# Altium footprint library SnapEDApcb.PcbLib: 3 footprints
Each footprint in its own frame and in the unit in brackets; x right, y up, seen from the top. Pads: shape width x height; smd on the part's side, far side on the other; paste and mask are expansions set on the pad; w line width, h text height; cw(c..) or ccw(c..) is an arc to the next point about the centre after c.
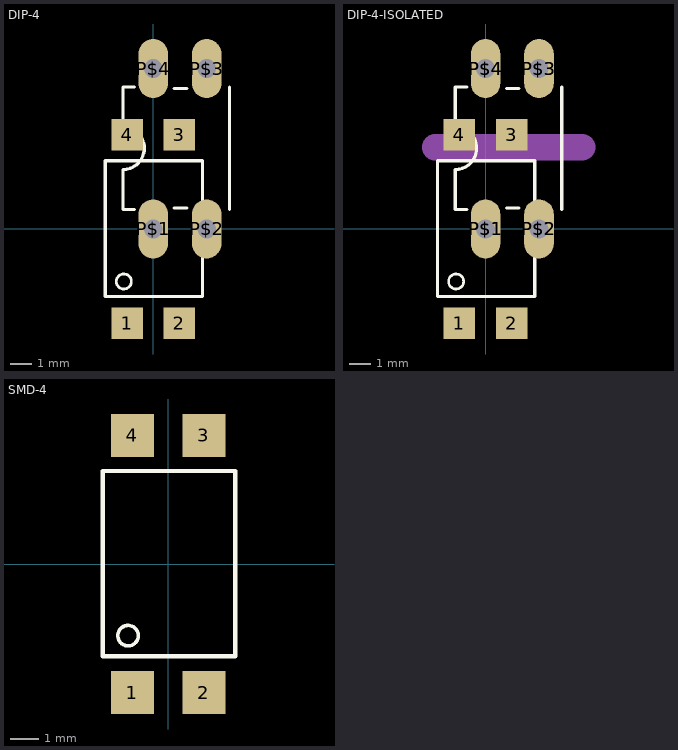
[diagram p0: the footprints below, top view; thin cyan lines are the x and y axes]

## DIP-4 [mm]
pads (8):
  rect 1.5x1.5 smd: 1(-1.25,-4.5) 2(1.25,-4.5) 3(1.25,4.5) 4(-1.25,4.5)
  oval 1.408x2.816 hole 0.9: P$1(0,0) P$2(2.55,0) P$3(2.55,7.65) P$4(0,7.65)
Top Overlay:
  circle w0.127: c-1.402,-2.507 r0.359
  lines w0.152: -0.9,0.929 -1.44,0.929 -1.44,2.834 ccw(c-1.44,3.85) -1.44,4.866 -1.44,6.771 -0.9,6.771 ; 1,1 1.6,1 ; 1,6.7 1.6,6.7 ; 3.64,0.929 3.64,6.771 ; -2.291,-3.225 2.351,-3.225 2.351,3.255 -2.291,3.255 -2.291,-3.225
3D body "LTV-817--3DModel-STEP-56544.STEP": height 5, standoff -3.3, extent -0.905,0 3.695,9.059

## DIP-4-ISOLATED [mm]
pads (12):
  rect 1.5x1.5 smd: 1(-1.25,-4.5) 2(1.25,-4.5) 3(1.25,4.5) 4(-1.25,4.5)
  oval 1.408x2.816 hole 0.9: P$1(0,0) P$1(0,0) P$2(2.55,0) P$2(2.55,0) P$3(2.55,7.65) P$3(2.55,7.65) P$4(0,7.65) P$4(0,7.65)
Top Overlay:
  circle w0.127: c-1.402,-2.507 r0.359
  lines w0.152: -1.44,0.929 -0.9,0.929 -1.44,0.929 ; -1.44,0.929 -1.44,2.834 ; -1.44,0.929 -1.44,2.834 ; -1.44,2.834 ccw(c-1.44,3.85) -1.44,4.866 ; -1.44,2.834 ccw(c-1.44,3.85) -1.44,4.866 ; -1.44,4.866 -1.44,6.771 ; -1.44,4.866 -1.44,6.771 ; -1.44,6.771 -0.9,6.771 -1.44,6.771 ; -2.291,-3.225 2.351,-3.225 2.351,3.255 -2.291,3.255 -2.291,-3.225 ; 1,1 1.6,1 1,1 ; 1,6.7 1.6,6.7 1,6.7 ; 3.64,0.929 3.64,6.771 3.64,0.929
Mechanical 13:
  lines w1.27: -2.4,3.9 4.6,3.9

## SMD-4 [mm]
pads (4):
  rect 1.5x1.5 smd: 1(-1.25,-4.5) 2(1.25,-4.5) 3(1.25,4.5) 4(-1.25,4.5)
Top Overlay:
  circle w0.127: c-1.402,-2.507 r0.359
  lines w0.152: -2.291,-3.225 2.351,-3.225 2.351,3.255 -2.291,3.255 -2.291,-3.225